# Altium integrated library Module.IntLib: 8 symbols
Pins are listed as number, name and electrical type; pins without a type are passive.

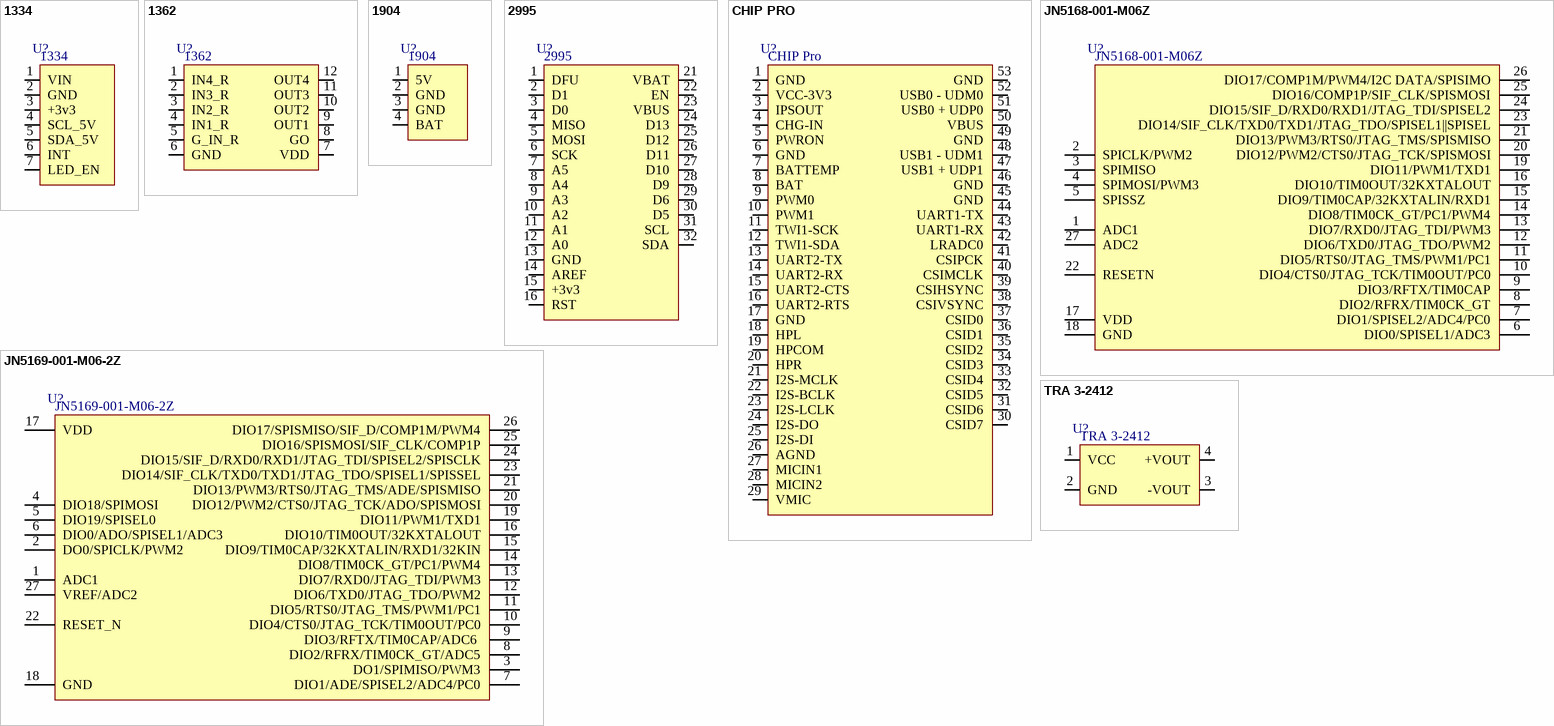
[diagram p0: symbols 1334 to TRA 3-2412]

## 1334
designator U?  MPN: 1334  (hidden comment: *)
RGB COLOR SENSOR WITH IR FILTER; MFT: Adafruit Industries LLC; VALUE: 1334; TYPE: TH; RATING: *; LOAD: *
footprint 1334
pins: 1 VIN, 2 GND, 3 +3v3, 4 SCL_5V, 5 SDA_5V, 6 INT, 7 LED_EN

## 1362
designator U?  MPN: 1362  (hidden comment: *)
ADAFRUIT - 1362 - Standalone 5-Pad Capacitive Touch Sensor Breakout - AT42QT1070; VALUE: 1362; MFT: ADAFRUIT; TYPE: TH; RATING: *; LOAD: *
pins: 1 IN4_R, 2 IN3_R, 3 IN2_R, 4 IN1_R, 5 G_IN_R, 6 GND, 7 VDD, 8 GO, 9 OUT1, 10 OUT2, 11 OUT3, 12 OUT4

## 1904
designator U?  MPN: 1904  (hidden comment: *)
ADAFRUIT - 1904 - Adafruit Micro Lipo w/MicroUSB Jack - USB LiIon/LiPoly charger - v1; VALUE: 1904; MFT: ADAFRUIT; TYPE: TH; RATING: *; LOAD: *
footprint 1904
pins: 1 5V, 2 GND, 3 GND, 4 BAT

## 2995
designator U?  MPN: 2995  (hidden comment: *)
FEATHER M0 BLUEFRUIT LE; MFT: Adafruit Industries LLC; VALUE: 2995; TYPE: TH; RATING: *; LOAD: *
footprint 2995
pins: 1 DFU, 2 D1, 3 D0, 4 MISO, 5 MOSI, 6 SCK, 7 A5, 8 A4, 9 A3, 10 A2, 11 A1, 12 A0, 13 GND, 14 AREF, 15 +3v3, 16 RST, 21 VBAT, 22 EN, 23 VBUS, 24 D13, 25 D12, 26 D11, 27 D10, 28 D9, 29 D6, 30 D5, 31 SCL, 32 SDA

## CHIP PRO
designator U?  value CHIP Pro  (hidden comment: *)
CHIP Pro SOM; MFT: Next Thing Co.; TYPE: SMD; RATING: *; LOAD: *
footprint chip pro
pins: 1 GND, 2 VCC-3V3, 3 IPSOUT, 4 CHG-IN, 5 PWRON, 6 GND, 7 BATTEMP, 8 BAT, 9 PWM0, 10 PWM1, 11 TWI1-SCK, 12 TWI1-SDA, 13 UART2-TX, 14 UART2-RX, 15 UART2-CTS, 16 UART2-RTS, 17 GND, 18 HPL, 19 HPCOM, 20 HPR, 21 I2S-MCLK, 22 I2S-BCLK, 23 I2S-LCLK, 24 I2S-DO, 25 I2S-DI, 26 AGND, 27 MICIN1, 28 MICIN2, 29 VMIC, 30 CSID7, 31 CSID6, 32 CSID5, 33 CSID4, 34 CSID3, 35 CSID2, 36 CSID1, 37 CSID0, 38 CSIVSYNC, 39 CSIHSYNC, 40 CSIMCLK, 41 CSIPCK, 42 LRADC0, 43 UART1-RX, 44 UART1-TX, 45 GND, 46 GND, 47 USB1 + UDP1, 48 USB1 - UDM1, 49 GND, 50 VBUS, 51 USB0 + UDP0, 52 USB0 - UDM0, 53 GND

## JN5168-001-M06Z
designator U?  MPN: JN5168-001-M06Z  (hidden comment: *)
RF TXRX MODULE 802.15.4 U.FL ANT; MFT: NXP USA Inc.; VALUE: JN5168-001-M06Z; TYPE: SMD; RATING: *; LOAD: *
footprint JN5168-001-M06Z
pins: 1 ADC1, 2 SPICLK/PWM2, 3 SPIMISO, 4 SPIMOSI/PWM3, 5 SPISSZ, 6 DIO0/SPISEL1/ADC3, 7 DIO1/SPISEL2/ADC4/PC0, 8 DIO2/RFRX/TIM0CK_GT, 9 DIO3/RFTX/TIM0CAP, 10 DIO4/CTS0/JTAG_TCK/TIM0OUT/PC0, 11 DIO5/RTS0/JTAG_TMS/PWM1/PC1, 12 DIO6/TXD0/JTAG_TDO/PWM2, 13 DIO7/RXD0/JTAG_TDI/PWM3, 14 DIO8/TIM0CK_GT/PC1/PWM4, 15 DIO9/TIM0CAP/32KXTALIN/RXD1, 16 DIO10/TIM0OUT/32KXTALOUT, 17 VDD, 18 GND, 19 DIO11/PWM1/TXD1, 20 DIO12/PWM2/CTS0/JTAG_TCK/SPISMOSI, 21 DIO13/PWM3/RTS0/JTAG_TMS/SPISMISO, 22 RESETN, 23 DIO14/SIF_CLK/TXD0/TXD1/JTAG_TDO/SPISEL1||SPISEL, 24 DIO15/SIF_D/RXD0/RXD1/JTAG_TDI/SPISEL2, 25 DIO16/COMP1P/SIF_CLK/SPISMOSI, 26 DIO17/COMP1M/PWM4/I2C DATA/SPISIMO, 27 ADC2

## JN5169-001-M06-2Z
designator U?  MPN: JN5169-001-M06-2Z  (hidden comment: *)
JN5169-001-M06-2 ZIGBEE 3.0, ZIG; MFT: NXP USA Inc.; VALUE: JN5169-001-M06-2Z; TYPE: SMD; RATING: *; LOAD: *
footprint JN5168-001-M06Z
pins: 1 ADC1, 2 DO0/SPICLK/PWM2, 3 DO1/SPIMISO/PWM3, 4 DIO18/SPIMOSI, 5 DIO19/SPISEL0, 6 DIO0/ADO/SPISEL1/ADC3, 7 DIO1/ADE/SPISEL2/ADC4/PC0, 8 DIO2/RFRX/TIM0CK_GT/ADC5, 9 DIO3/RFTX/TIM0CAP/ADC6 , 10 DIO4/CTS0/JTAG_TCK/TIM0OUT/PC0, 11 DIO5/RTS0/JTAG_TMS/PWM1/PC1, 12 DIO6/TXD0/JTAG_TDO/PWM2, 13 DIO7/RXD0/JTAG_TDI/PWM3, 14 DIO8/TIM0CK_GT/PC1/PWM4, 15 DIO9/TIM0CAP/32KXTALIN/RXD1/32KIN, 16 DIO10/TIM0OUT/32KXTALOUT, 17 VDD, 18 GND, 19 DIO11/PWM1/TXD1, 20 DIO12/PWM2/CTS0/JTAG_TCK/ADO/SPISMOSI, 21 DIO13/PWM3/RTS0/JTAG_TMS/ADE/SPISMISO, 22 RESET_N, 23 DIO14/SIF_CLK/TXD0/TXD1/JTAG_TDO/SPISEL1/SPISSEL, 24 DIO15/SIF_D/RXD0/RXD1/JTAG_TDI/SPISEL2/SPISCLK, 25 DIO16/SPISMOSI/SIF_CLK/COMP1P, 26 DIO17/SPISMISO/SIF_D/COMP1M/PWM4, 27 VREF/ADC2

## TRA 3-2412
designator U?  MPN: TRA 3-2412  (hidden comment: *)
TRACOPOWER Through Hole 3W Isolated DC-DC Converter; RATING: 12V; VALUE: TRA 3-2412; MFT: TRACOPOWER; LOAD: *; TYPE: TH
footprint TRA 3-2412
pins: 1 VCC, 2 GND, 3 -VOUT, 4 +VOUT